# Altium footprint library Connector.PcbLib: 58 footprints (part 1 of 4)
Each footprint in its own frame and in the unit in brackets; x right, y up, seen from the top. Pads: shape width x height; smd on the part's side, far side on the other; paste and mask are expansions set on the pad; w line width, h text height; cw(c..) or ccw(c..) is an arc to the next point about the centre after c.
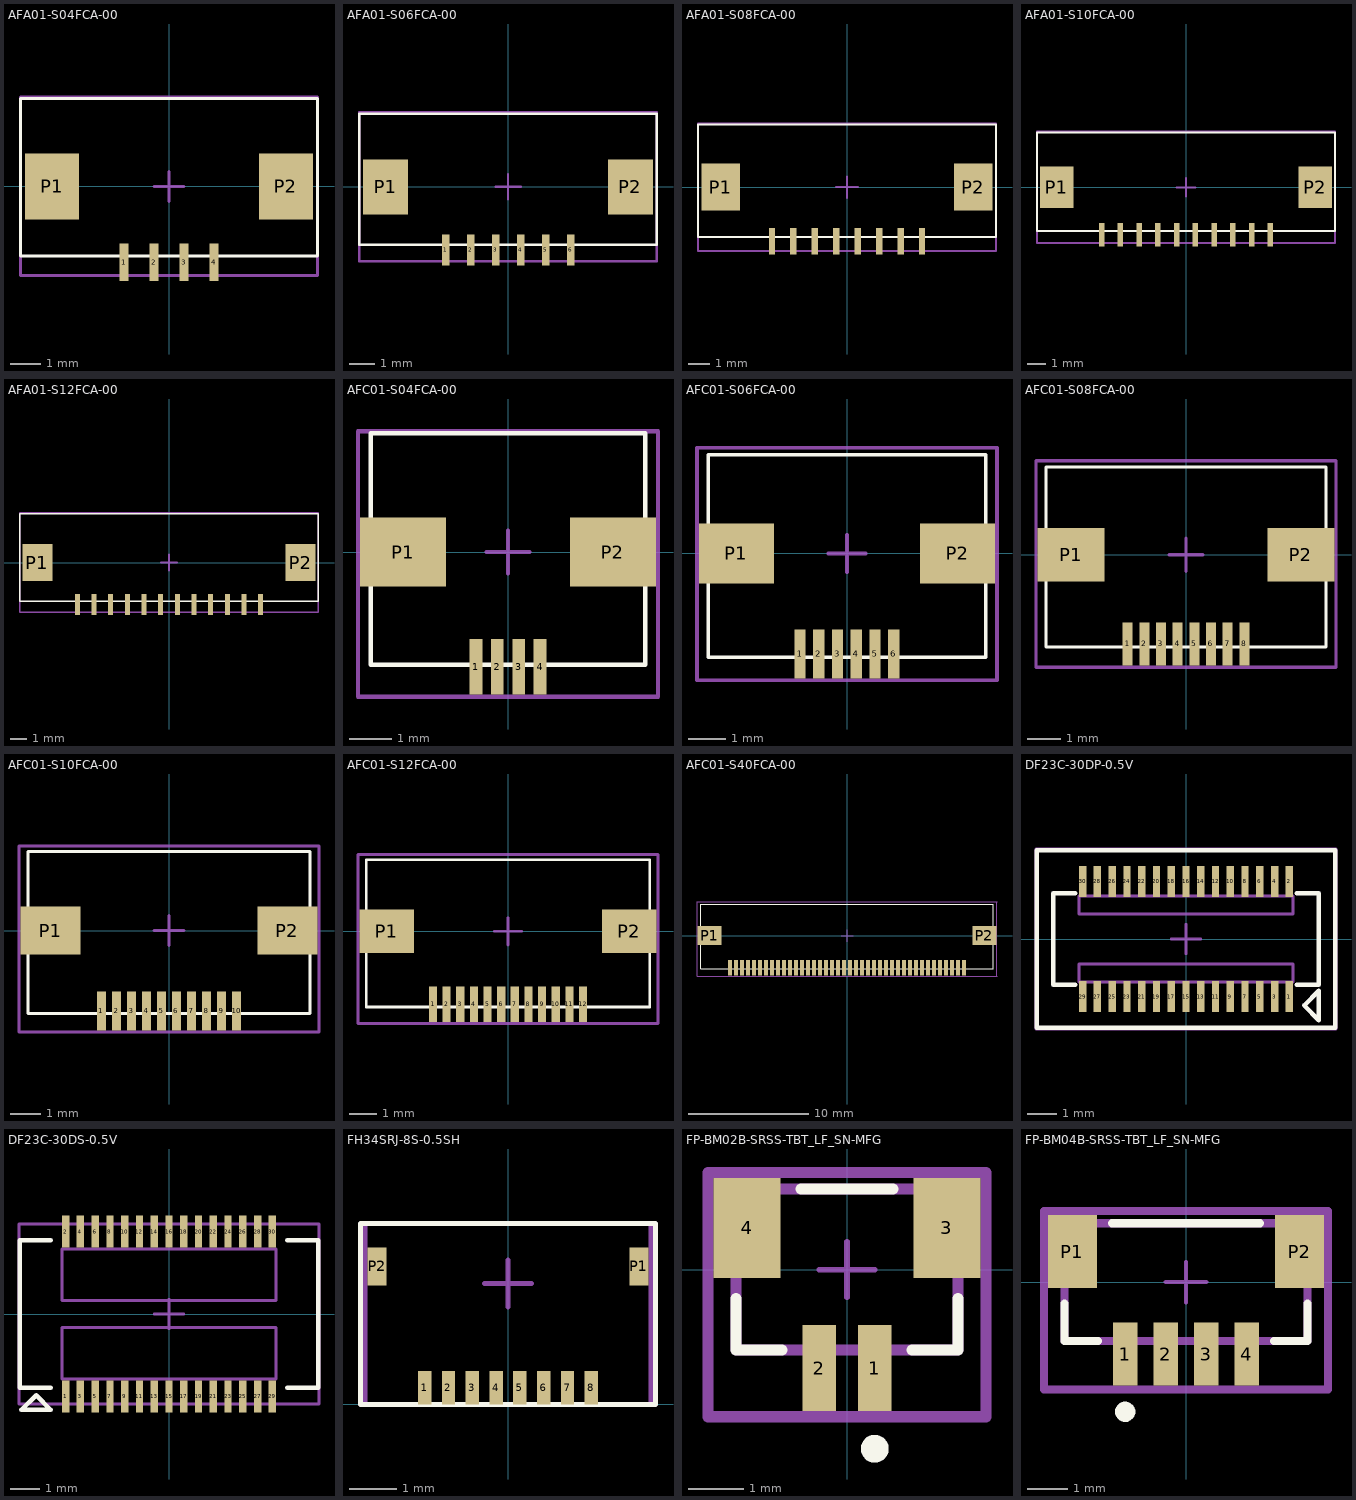
[diagram p0: the footprints below, top view; thin cyan lines are the x and y axes]

## AFA01-S04FCA-00 [mm] "SMD,P=1mm"
pads (6):
  rect 0.3x1.25 smd paste+0 mask+0.05: 1(-1.5,-2.525) 2(-0.5,-2.525) 3(0.5,-2.525) 4(1.5,-2.525)
  rect 1.8x2.2 smd paste+0 mask+0.05: P1(-3.9,0) P2(3.9,0)
Top Overlay:
  lines w0.1: -4.95,-2.325 4.95,-2.325 4.95,2.925 -4.95,2.925 -4.95,-2.325
Top Courtyard:
  lines w0.1: -4.95,-2.975 4.95,-2.975 4.95,2.975 -4.95,2.975 -4.95,-2.975
Top Component Center:
  lines w0.1: -0.5,0 0.5,0 ; 0,-0.5 0,0.5
3D body: height 2, standoff 0, extent -4.95,-2.1 4.95,3
3D body: height 2.1, standoff 1, extent -3,-0.002 3,3.2
3D body: height 0.2, standoff 0, extent -1.65,-2.75 -1.35,-1.85
3D body: height 0.2, standoff 0, extent -0.65,-2.75 -0.35,-1.85
3D body: height 0.2, standoff 0, extent 1.35,-2.75 1.65,-1.85
3D body: height 0.2, standoff 0, extent 0.35,-2.75 0.65,-1.85

## AFA01-S06FCA-00 [mm] "SMD,P=1mm"
pads (8):
  rect 0.3x1.25 smd paste+0 mask+0.05: 1(-2.5,-2.525) 2(-1.5,-2.525) 3(-0.5,-2.525) 4(0.5,-2.525) 5(1.5,-2.525) 6(2.5,-2.525)
  rect 1.8x2.2 smd paste+0 mask+0.05: P1(-4.9,0) P2(4.9,0)
Top Overlay:
  lines w0.1: -5.95,-2.325 5.95,-2.325 5.95,2.925 -5.95,2.925 -5.95,-2.325
Top Courtyard:
  lines w0.1: -5.95,-2.975 5.95,-2.975 5.95,2.975 -5.95,2.975 -5.95,-2.975
Top Component Center:
  lines w0.1: -0.5,0 0.5,0 ; 0,-0.5 0,0.5
3D body: height 0.2, standoff 0, extent 0.35,-2.75 0.65,-1.85
3D body: height 0.2, standoff 0, extent 2.35,-2.75 2.65,-1.85
3D body: height 0.2, standoff 0, extent 1.35,-2.75 1.65,-1.85
3D body: height 0.2, standoff 0, extent -0.65,-2.75 -0.35,-1.85
3D body: height 0.2, standoff 0, extent -1.65,-2.75 -1.35,-1.85
3D body: height 0.2, standoff 0, extent -2.65,-2.75 -2.35,-1.85
3D body: height 2.1, standoff 1, extent -4,-0.002 4,3.2
3D body: height 2, standoff 0, extent -5.95,-2.1 5.95,3

## AFA01-S08FCA-00 [mm] "SMD,P=1mm"
pads (10):
  rect 0.3x1.25 smd paste+0 mask+0.05: 1(-3.5,-2.525) 2(-2.5,-2.525) 3(-1.5,-2.525) 4(-0.5,-2.525) 5(0.5,-2.525) 6(1.5,-2.525) 7(2.5,-2.525) 8(3.5,-2.525)
  rect 1.8x2.2 smd paste+0 mask+0.05: P1(-5.9,0) P2(5.9,0)
Top Overlay:
  lines w0.1: -6.95,-2.325 -6.95,2.925 6.95,2.925 6.95,-2.325 -6.95,-2.325
Top Courtyard:
  lines w0.1: -6.95,-2.975 -6.95,2.975 6.95,2.975 6.95,-2.975 -6.95,-2.975
Top Component Center:
  lines w0.1: -0.5,0 0.5,0 ; 0,-0.5 0,0.5
3D body: height 0.2, standoff 0, extent -0.65,-2.75 -0.35,-1.85
3D body: height 0.2, standoff 0, extent 0.35,-2.75 0.65,-1.85
3D body: height 0.2, standoff 0, extent -1.65,-2.75 -1.35,-1.85
3D body: height 0.2, standoff 0, extent -2.65,-2.75 -2.35,-1.85
3D body: height 2.1, standoff 1, extent -5,-0.002 5,3.2
3D body: height 2, standoff 0, extent -6.95,-2.1 6.95,3
3D body: height 0.2, standoff 0, extent -3.65,-2.75 -3.35,-1.85
3D body: height 0.2, standoff 0, extent 1.35,-2.75 1.65,-1.85
3D body: height 0.2, standoff 0, extent 2.35,-2.75 2.65,-1.85
3D body: height 0.2, standoff 0, extent 3.35,-2.75 3.65,-1.85

## AFA01-S10FCA-00 [mm] "SMD,P=1mm"
pads (12):
  rect 0.3x1.25 smd paste+0 mask+0.05: 1(-4.5,-2.525) 2(-3.5,-2.525) 3(-2.5,-2.525) 4(-1.5,-2.525) 5(-0.5,-2.525) 6(0.5,-2.525) 7(1.5,-2.525) 8(2.5,-2.525) 9(3.5,-2.525) 10(4.5,-2.525)
  rect 1.8x2.2 smd paste+0 mask+0.05: P1(-6.9,0) P2(6.9,0)
Top Overlay:
  lines w0.1: -7.95,-2.325 -7.95,2.925 7.95,2.925 7.95,-2.325 -7.95,-2.325
Top Courtyard:
  lines w0.1: -7.95,-2.975 -7.95,2.975 7.95,2.975 7.95,-2.975 -7.95,-2.975
Top Component Center:
  lines w0.1: -0.5,0 0.5,0 ; 0,-0.5 0,0.5
3D body: height 0.2, standoff 0, extent -1.65,-2.75 -1.35,-1.85
3D body: height 0.2, standoff 0, extent -0.65,-2.75 -0.35,-1.85
3D body: height 0.2, standoff 0, extent -2.65,-2.75 -2.35,-1.85
3D body: height 0.2, standoff 0, extent -3.65,-2.75 -3.35,-1.85
3D body: height 2.1, standoff 1, extent -6,-0.002 6,3.2
3D body: height 2, standoff 0, extent -7.95,-2.1 7.95,3
3D body: height 0.2, standoff 0, extent -4.65,-2.75 -4.35,-1.85
3D body: height 0.2, standoff 0, extent 0.35,-2.75 0.65,-1.85
3D body: height 0.2, standoff 0, extent 1.35,-2.75 1.65,-1.85
3D body: height 0.2, standoff 0, extent 2.35,-2.75 2.65,-1.85
3D body: height 0.2, standoff 0, extent 3.35,-2.75 3.65,-1.85
3D body: height 0.2, standoff 0, extent 4.35,-2.75 4.65,-1.85

## AFA01-S12FCA-00 [mm] "SMD,P=1mm"
pads (14):
  rect 0.3x1.25 smd paste+0 mask+0.05: 1(-5.5,-2.525) 2(-4.5,-2.525) 3(-3.5,-2.525) 4(-2.5,-2.525) 5(-1.5,-2.525) 6(-0.5,-2.525) 7(0.5,-2.525) 8(1.5,-2.525) 9(2.5,-2.525) 10(3.5,-2.525) 11(4.5,-2.525) 12(5.5,-2.525)
  rect 1.8x2.2 smd paste+0 mask+0.05: P1(-7.9,0) P2(7.9,0)
Top Overlay:
  lines w0.1: -8.95,-2.325 8.95,-2.325 8.95,2.925 -8.95,2.925 -8.95,-2.325
Top Courtyard:
  lines w0.1: -8.95,-2.975 8.95,-2.975 8.95,2.975 -8.95,2.975 -8.95,-2.975
Top Component Center:
  lines w0.1: -0.5,0 0.5,0 ; 0,-0.5 0,0.5
3D body: height 0.2, standoff 0, extent 4.35,-2.75 4.65,-1.85
3D body: height 0.2, standoff 0, extent 5.35,-2.75 5.65,-1.85
3D body: height 0.2, standoff 0, extent -2.65,-2.75 -2.35,-1.85
3D body: height 0.2, standoff 0, extent -1.65,-2.75 -1.35,-1.85
3D body: height 0.2, standoff 0, extent -3.65,-2.75 -3.35,-1.85
3D body: height 0.2, standoff 0, extent -4.65,-2.75 -4.35,-1.85
3D body: height 2.1, standoff 1, extent -7,-0.002 7,3.2
3D body: height 2, standoff 0, extent -8.95,-2.1 8.95,3
3D body: height 0.2, standoff 0, extent -5.65,-2.75 -5.35,-1.85
3D body: height 0.2, standoff 0, extent -0.65,-2.75 -0.35,-1.85
3D body: height 0.2, standoff 0, extent 0.35,-2.75 0.65,-1.85
3D body: height 0.2, standoff 0, extent 1.35,-2.75 1.65,-1.85
3D body: height 0.2, standoff 0, extent 2.35,-2.75 2.65,-1.85
3D body: height 0.2, standoff 0, extent 3.35,-2.75 3.65,-1.85

## AFC01-S04FCA-00 [mm] "SMD,P=0.5mm"
pads (6):
  rect 0.3x1.3 smd: 1(-0.75,-2.68) 2(-0.25,-2.68) 3(0.25,-2.68) 4(0.75,-2.68)
  rect 2x1.6 smd: P1(-2.45,0) P2(2.45,0)
Top Overlay:
  lines w0.1: -3.2,-2.63 3.2,-2.63 3.2,2.77 -3.2,2.77 -3.2,-2.63
Top Courtyard:
  lines w0.1: -3.5,-3.38 3.5,-3.38 3.5,2.82 -3.5,2.82 -3.5,-3.38
Top Component Center:
  lines w0.1: -0.5,0 0.5,0 ; 0,-0.5 0,0.5
3D body: height 0.2, standoff 0, extent -0.9,-3.33 -0.6,-2.43
3D body: height 0.2, standoff 0, extent -0.4,-3.33 -0.1,-2.43
3D body: height 0.2, standoff 0, extent 0.6,-3.33 0.9,-2.43
3D body: height 0.2, standoff 0, extent 0.1,-3.33 0.4,-2.43
3D body: height 2.1, standoff 1, extent -1.4,-0.536 1.4,2.868
3D body: height 2, standoff 0, extent -3.2,-2.517 3.2,2.67

## AFC01-S06FCA-00 [mm] "SMD,P=0.5mm"
pads (8):
  rect 0.3x1.3 smd: 1(-1.25,-2.68) 2(-0.75,-2.68) 3(-0.25,-2.68) 4(0.25,-2.68) 5(0.75,-2.68) 6(1.25,-2.68)
  rect 2x1.6 smd: P1(-2.95,0) P2(2.95,0)
Top Overlay:
  lines w0.1: -3.7,-2.77 3.7,-2.77 3.7,2.63 -3.7,2.63 -3.7,-2.77
Top Courtyard:
  lines w0.1: -4,-3.38 4,-3.38 4,2.82 -4,2.82 -4,-3.38
Top Component Center:
  lines w0.1: -0.5,0 0.5,0 ; 0,-0.5 0,0.5
3D body: height 0.2, standoff 0, extent -1.4,-3.33 -1.1,-2.43
3D body: height 0.2, standoff 0, extent -0.9,-3.33 -0.6,-2.43
3D body: height 0.2, standoff 0, extent -0.4,-3.33 -0.1,-2.43
3D body: height 0.2, standoff 0, extent 0.6,-3.33 0.9,-2.43
3D body: height 0.2, standoff 0, extent 1.1,-3.33 1.4,-2.43
3D body: height 0.2, standoff 0, extent 0.1,-3.33 0.4,-2.43
3D body: height 2.1, standoff 1, extent -1.905,-0.536 1.905,2.868
3D body: height 2, standoff 0, extent -3.7,-2.517 3.7,2.67

## AFC01-S08FCA-00 [mm] "SMD,P=0.5mm"
pads (10):
  rect 0.3x1.3 smd: 1(-1.75,-2.68) 2(-1.25,-2.68) 3(-0.75,-2.68) 4(-0.25,-2.68) 5(0.25,-2.68) 6(0.75,-2.68) 7(1.25,-2.68) 8(1.75,-2.68)
  rect 2x1.6 smd: P1(-3.45,0) P2(3.45,0)
Top Overlay:
  lines w0.1: -4.2,-2.77 4.2,-2.77 4.2,2.63 -4.2,2.63 -4.2,-2.77
Top Courtyard:
  lines w0.1: -4.5,-3.38 4.5,-3.38 4.5,2.82 -4.5,2.82 -4.5,-3.38
Top Component Center:
  lines w0.1: -0.5,0 0.5,0 ; 0,-0.5 0,0.5
3D body: height 0.2, standoff 0, extent 1.6,-3.33 1.9,-2.43
3D body: height 0.2, standoff 0, extent -1.9,-3.33 -1.6,-2.43
3D body: height 2, standoff 0, extent -4.2,-2.517 4.2,2.67
3D body: height 2.1, standoff 1, extent -2.4,-0.536 2.4,2.868
3D body: height 0.2, standoff 0, extent 0.1,-3.33 0.4,-2.43
3D body: height 0.2, standoff 0, extent 1.1,-3.33 1.4,-2.43
3D body: height 0.2, standoff 0, extent 0.6,-3.33 0.9,-2.43
3D body: height 0.2, standoff 0, extent -0.4,-3.33 -0.1,-2.43
3D body: height 0.2, standoff 0, extent -0.9,-3.33 -0.6,-2.43
3D body: height 0.2, standoff 0, extent -1.4,-3.33 -1.1,-2.43

## AFC01-S10FCA-00 [mm] "SMD,P=0.5mm"
pads (12):
  rect 0.3x1.3 smd: 1(-2.25,-2.68) 2(-1.75,-2.68) 3(-1.25,-2.68) 4(-0.75,-2.68) 5(-0.25,-2.68) 6(0.25,-2.68) 7(0.75,-2.68) 8(1.25,-2.68) 9(1.75,-2.68) 10(2.25,-2.68)
  rect 2x1.6 smd: P1(-3.95,0) P2(3.95,0)
Top Overlay:
  lines w0.1: -4.7,-2.77 -4.7,2.63 4.7,2.63 4.7,-2.77 -4.7,-2.77
Top Courtyard:
  lines w0.1: -5,-3.38 -5,2.82 5,2.82 5,-3.38 -5,-3.38
Top Component Center:
  lines w0.1: -0.5,0 0.5,0 ; 0,-0.5 0,0.5
3D body: height 0.2, standoff 0, extent -1.9,-3.33 -1.6,-2.43
3D body: height 0.2, standoff 0, extent -1.4,-3.33 -1.1,-2.43
3D body: height 0.2, standoff 0, extent -0.9,-3.33 -0.6,-2.43
3D body: height 0.2, standoff 0, extent 0.1,-3.33 0.4,-2.43
3D body: height 0.2, standoff 0, extent 0.6,-3.33 0.9,-2.43
3D body: height 0.2, standoff 0, extent -0.4,-3.33 -0.1,-2.43
3D body: height 2.1, standoff 1, extent -2.9,-0.536 2.9,2.868
3D body: height 2, standoff 0, extent -4.7,-2.517 4.7,2.67
3D body: height 0.2, standoff 0, extent -2.4,-3.33 -2.1,-2.43
3D body: height 0.2, standoff 0, extent 1.1,-3.33 1.4,-2.43
3D body: height 0.2, standoff 0, extent 1.6,-3.33 1.9,-2.43
3D body: height 0.2, standoff 0, extent 2.1,-3.33 2.4,-2.43

## AFC01-S12FCA-00 [mm] "SMD,P=0.5mm"
pads (14):
  rect 0.3x1.3 smd: 1(-2.75,-2.68) 2(-2.25,-2.68) 3(-1.75,-2.68) 4(-1.25,-2.68) 5(-0.75,-2.68) 6(-0.25,-2.68) 7(0.25,-2.68) 8(0.75,-2.68) 9(1.25,-2.68) 10(1.75,-2.68) 11(2.25,-2.68) 12(2.75,-2.68)
  rect 2x1.6 smd: P1(-4.45,0) P2(4.45,0)
Top Overlay:
  lines w0.1: -5.2,-2.77 5.2,-2.77 5.2,2.63 -5.2,2.63 -5.2,-2.77
Top Courtyard:
  lines w0.1: -5.5,-3.38 -5.5,2.82 5.5,2.82 5.5,-3.38 -5.5,-3.38
Top Component Center:
  lines w0.1: -0.5,0 0.5,0 ; 0,-0.5 0,0.5
3D body: height 0.2, standoff 0, extent 1.6,-3.33 1.9,-2.43
3D body: height 0.2, standoff 0, extent 1.1,-3.33 1.4,-2.43
3D body: height 0.2, standoff 0, extent 0.6,-3.33 0.9,-2.43
3D body: height 0.2, standoff 0, extent -2.9,-3.33 -2.6,-2.43
3D body: height 2, standoff 0, extent -5.2,-2.517 5.2,2.67
3D body: height 2.1, standoff 1, extent -3.4,-0.536 3.4,2.868
3D body: height 0.2, standoff 0, extent -0.9,-3.33 -0.6,-2.43
3D body: height 0.2, standoff 0, extent 0.1,-3.33 0.4,-2.43
3D body: height 0.2, standoff 0, extent -0.4,-3.33 -0.1,-2.43
3D body: height 0.2, standoff 0, extent -1.4,-3.33 -1.1,-2.43
3D body: height 0.2, standoff 0, extent -1.9,-3.33 -1.6,-2.43
3D body: height 0.2, standoff 0, extent -2.4,-3.33 -2.1,-2.43
3D body: height 0.2, standoff 0, extent 2.6,-3.33 2.9,-2.43
3D body: height 0.2, standoff 0, extent 2.1,-3.33 2.4,-2.43

## AFC01-S40FCA-00 [mm] "SMD,P=0.5mm"
pads (42):
  rect 0.3x1.3 smd: 1(-9.75,-2.68) 2(-9.25,-2.68) 3(-8.75,-2.68) 4(-8.25,-2.68) 5(-7.75,-2.68) 6(-7.25,-2.68) 7(-6.75,-2.68) 8(-6.25,-2.68) 9(-5.75,-2.68) 10(-5.25,-2.68) 11(-4.75,-2.68) 12(-4.25,-2.68) 13(-3.75,-2.68) 14(-3.25,-2.68) 15(-2.75,-2.68) 16(-2.25,-2.68) 17(-1.75,-2.68) 18(-1.25,-2.68) 19(-0.75,-2.68) 20(-0.25,-2.68) 21(0.25,-2.68) 22(0.75,-2.68) 23(1.25,-2.68) 24(1.75,-2.68) 25(2.25,-2.68) 26(2.75,-2.68) 27(3.25,-2.68) 28(3.75,-2.68) 29(4.25,-2.68) 30(4.75,-2.68) 31(5.25,-2.68) 32(5.75,-2.68) 33(6.25,-2.68) 34(6.75,-2.68) 35(7.25,-2.68) 36(7.75,-2.68) 37(8.25,-2.68) 38(8.75,-2.68) 39(9.25,-2.68) 40(9.75,-2.68)
  rect 2x1.6 smd: P1(-11.45,0) P2(11.45,0)
Top Overlay:
  lines w0.1: -12.2,-2.77 -12.2,2.63 12.2,2.63 12.2,-2.77 -12.2,-2.77
Top Courtyard:
  lines w0.1: -12.5,-3.38 12.5,-3.38 12.5,2.82 -12.5,2.82 -12.5,-3.38
Top Component Center:
  lines w0.1: -0.5,0 0.5,0 ; 0,-0.5 0,0.5
3D body: height 0.2, standoff 0, extent 9.1,-3.33 9.4,-2.43
3D body: height 0.2, standoff 0, extent 9.6,-3.33 9.9,-2.43
3D body: height 0.2, standoff 0, extent 8.1,-3.33 8.4,-2.43
3D body: height 0.2, standoff 0, extent 8.6,-3.33 8.9,-2.43
3D body: height 0.2, standoff 0, extent 7.1,-3.33 7.4,-2.43
3D body: height 0.2, standoff 0, extent 7.6,-3.33 7.9,-2.43
3D body: height 0.2, standoff 0, extent 2.6,-3.33 2.9,-2.43
3D body: height 0.2, standoff 0, extent 3.1,-3.33 3.4,-2.43
3D body: height 0.2, standoff 0, extent 3.6,-3.33 3.9,-2.43
3D body: height 0.2, standoff 0, extent 4.6,-3.33 4.9,-2.43
3D body: height 0.2, standoff 0, extent 5.1,-3.33 5.4,-2.43
3D body: height 0.2, standoff 0, extent 4.1,-3.33 4.4,-2.43
3D body: height 0.2, standoff 0, extent 2.1,-3.33 2.4,-2.43
3D body: height 0.2, standoff 0, extent 5.6,-3.33 5.9,-2.43
3D body: height 0.2, standoff 0, extent 6.1,-3.33 6.4,-2.43
3D body: height 0.2, standoff 0, extent 6.6,-3.33 6.9,-2.43
3D body: height 0.2, standoff 0, extent 1.1,-3.33 1.4,-2.43
3D body: height 0.2, standoff 0, extent 1.6,-3.33 1.9,-2.43
3D body: height 0.2, standoff 0, extent -3.4,-3.33 -3.1,-2.43
3D body: height 0.2, standoff 0, extent -2.9,-3.33 -2.6,-2.43
3D body: height 0.2, standoff 0, extent -2.4,-3.33 -2.1,-2.43
3D body: height 0.2, standoff 0, extent -1.4,-3.33 -1.1,-2.43
3D body: height 0.2, standoff 0, extent -0.9,-3.33 -0.6,-2.43
3D body: height 0.2, standoff 0, extent -1.9,-3.33 -1.6,-2.43
3D body: height 0.2, standoff 0, extent -3.9,-3.33 -3.6,-2.43
3D body: height 0.2, standoff 0, extent -0.4,-3.33 -0.1,-2.43
3D body: height 0.2, standoff 0, extent 0.1,-3.33 0.4,-2.43
3D body: height 0.2, standoff 0, extent 0.6,-3.33 0.9,-2.43
3D body: height 0.2, standoff 0, extent -4.9,-3.33 -4.6,-2.43
3D body: height 0.2, standoff 0, extent -4.4,-3.33 -4.1,-2.43
3D body: height 0.2, standoff 0, extent -9.4,-3.33 -9.1,-2.43
3D body: height 0.2, standoff 0, extent -8.9,-3.33 -8.6,-2.43
3D body: height 0.2, standoff 0, extent -8.4,-3.33 -8.1,-2.43
3D body: height 0.2, standoff 0, extent -7.4,-3.33 -7.1,-2.43
3D body: height 0.2, standoff 0, extent -6.9,-3.33 -6.6,-2.43
3D body: height 0.2, standoff 0, extent -7.9,-3.33 -7.6,-2.43
3D body: height 2.1, standoff 1, extent -10.4,-0.536 10.4,2.868
3D body: height 2, standoff 0, extent -12.2,-2.517 12.2,2.67
3D body: height 0.2, standoff 0, extent -9.9,-3.33 -9.6,-2.43
3D body: height 0.2, standoff 0, extent -6.4,-3.33 -6.1,-2.43
3D body: height 0.2, standoff 0, extent -5.9,-3.33 -5.6,-2.43
3D body: height 0.2, standoff 0, extent -5.4,-3.33 -5.1,-2.43

## DF23C-30DP-0.5V [mm]
pads (30):
  rect 0.25x1.05 smd: 1(3.5,-1.95) 2(3.5,1.95) 3(3,-1.95) 4(3,1.95) 5(2.5,-1.95) 6(2.5,1.95) 7(2,-1.95) 8(2,1.95) 9(1.5,-1.95) 10(1.5,1.95) 11(1,-1.95) 12(1,1.95) 13(0.5,-1.95) 14(0.5,1.95) 15(0,-1.95) 16(0,1.95) 17(-0.5,-1.95) 18(-0.5,1.95) 19(-1,-1.95) 20(-1,1.95) 21(-1.5,-1.95) 22(-1.5,1.95) 23(-2,-1.95) 24(-2,1.95) 25(-2.5,-1.95) 26(-2.5,1.95) 27(-3,-1.95) 28(-3,1.95) 29(-3.5,-1.95) 30(-3.5,1.95)
Top Overlay:
  lines w0.152: -3.75,-1.55 -4.5,-1.55 -4.5,1.55 -4,1.55 -3.75,1.55 ; 3.75,-1.55 4.5,-1.55 4.5,1.55 3.75,1.55 ; -5.05,-3 -5.05,3 5.05,3 5.05,-3 -5.05,-3 ; 4,-2.25 4.5,-1.75 4.5,-2.5 4.5,-2.75 4,-2.25
Top Courtyard:
  lines w0.102: -5.08,-3.048 5.08,-3.048 5.08,3.048 -5.08,3.048 -5.08,-3.048
Top Assembly:
  lines w0.102: -3.625,-1.45 -3.625,-0.85 3.625,-0.85 3.625,-1.45 -3.625,-1.45 ; -3.625,0.85 3.625,0.85 3.625,1.45 -3.625,1.45 -3.625,0.85
Top Component Center:
  lines w0.1: -0.5,0 0.5,0 ; 0,-0.5 0,0.5
3D body: height 1.45, standoff 0, extent -4.5,-1.5 4.5,1.5

## DF23C-30DS-0.5V [mm]
pads (30):
  rect 0.25x1.1 smd: 1(-3.5,-2.794) 2(-3.5,2.794) 3(-3,-2.794) 4(-3,2.794) 5(-2.5,-2.794) 6(-2.5,2.794) 7(-2,-2.794) 8(-2,2.794) 9(-1.5,-2.794) 10(-1.5,2.794) 11(-1,-2.794) 12(-1,2.794) 13(-0.5,-2.794) 14(-0.5,2.794) 15(0,-2.794) 16(0,2.794) 17(0.5,-2.794) 18(0.5,2.794) 19(1,-2.794) 20(1,2.794) 21(1.5,-2.794) 22(1.5,2.794) 23(2,-2.794) 24(2,2.794) 25(2.5,-2.794) 26(2.5,2.794) 27(3,-2.794) 28(3,2.794) 29(3.5,-2.794) 30(3.5,2.794)
Top Overlay:
  lines w0.152: -4,-2.5 -5.05,-2.5 -5.05,2.5 -4,2.5 ; 4,-2.5 5.05,-2.5 5.05,2.5 4,2.5 ; -5,-3.25 -4,-3.25 -4.5,-2.75 -5,-3.25
Top Courtyard:
  lines w0.102: -5.08,-3.048 5.08,-3.048 5.08,3.048 -5.08,3.048 -5.08,-3.048
Top Assembly:
  lines w0.102: -3.625,-2.2 3.625,-2.2 3.625,-0.45 -3.625,-0.45 -3.625,-2.2 ; -3.625,0.45 3.625,0.45 3.625,2.2 -3.625,2.2 -3.625,0.45
Top Component Center:
  lines w0.1: -0.5,0 0.5,0 ; 0,-0.5 0,0.5
3D body: height 1.45, standoff 0, extent -5,-2.5 5,2.5

## FH34SRJ-8S-0.5SH [mm] "SMD,P=0.5mm"
pads (10):
  rect 0.28x0.7 smd: 1(-1.75,0.35) 2(-1.25,0.35) 3(-0.75,0.35) 4(-0.25,0.35) 5(0.25,0.35) 6(0.75,0.35) 7(1.25,0.35) 8(1.75,0.35)
  rect 0.4x0.8 smd: P1(2.75,2.9) P2(-2.75,2.9)
Top Overlay:
  lines w0.1: -3.1,0 -3.1,3.8 ; 3.1,0 3.1,3.8
  lines w0.102: -3.1,0 3.1,0 ; -3.1,3.8 3.1,3.8
Top Courtyard:
  lines w0.1: -3,0 -3,3.8 ; 3,0 3,3.8
  lines w0.102: -3,0 3,0 ; -3,3.8 3,3.8
Top Component Center:
  lines w0.1: -0.5,2.54 0.5,2.54 ; 0,2.04 0,3.04
3D body: height 2, standoff 0, extent -3,0.813 3,3.8
3D body: height 0.2, standoff 0, extent 0.1,0 0.4,0.9
3D body: height 0.2, standoff 0, extent -0.9,0 -0.6,0.9
3D body: height 0.2, standoff 0, extent -1.4,0 -1.1,0.9
3D body: height 0.2, standoff 0, extent -1.9,0 -1.6,0.9
3D body: height 2.1, standoff 1, extent -2.9,-0.002 2.9,1.8
3D body: height 0.2, standoff 0, extent 0.6,0 0.9,0.9
3D body: height 0.2, standoff 0, extent 1.6,0 1.9,0.9
3D body: height 0.2, standoff 0, extent -0.4,0 -0.1,0.9
3D body: height 0.2, standoff 0, extent 1.1,0 1.4,0.9

## FP-BM02B-SRSS-TBT_LF_SN-MFG [mm]
pads (4):
  rect 0.6x1.55 smd paste+0 mask+0: 1(0.5,-1.775) 2(-0.5,-1.775)
  rect 1.2x1.8 smd paste+0 mask+0: 3(1.8,0.75) 4(-1.8,0.75)
Top Overlay:
  circle w0.25: c0.5,-3.225 r0.125
  lines w0.2: -2,-0.525 -2,-1.45 -1.175,-1.45 ; -0.825,1.45 0.825,1.45 ; 1.175,-1.45 2,-1.45 2,-0.525
Top 3D Body:
  lines w0.2: -2,-1.45 2,-1.45 2,1.45 -2,1.45 -2,-1.45
Top Courtyard:
  lines w0.2: -2.5,-2.65 2.5,-2.65 2.5,1.75 -2.5,1.75 -2.5,-2.65
Top Assembly:
  lines w0.2: -2.5,-2.65 2.5,-2.65 2.5,1.75 -2.5,1.75 -2.5,-2.65
Top Component Center:
  lines w0.1: -0.5,0 0.5,0 ; 0,-0.5 0,0.5
3D body "Conn_JST_BM02B-SRSS-TBT_LF_SN_eec.STEP": height 0.25, standoff 0, extent -2.5,-2.65 2.5,1.75

## FP-BM04B-SRSS-TBT_LF_SN-MFG [mm]
pads (6):
  rect 0.6x1.55 smd paste+0 mask+0: 1(-1.5,-1.775) 2(-0.5,-1.775) 3(0.5,-1.775) 4(1.5,-1.775)
  rect 1.2x1.8 smd paste+0 mask+0: P1(-2.8,0.75) P2(2.8,0.75)
Top Overlay:
  circle w0.25: c-1.5,-3.2 r0.125
  lines w0.2: -3,-0.525 -3,-1.45 -2.175,-1.45 ; -1.825,1.45 1.825,1.45 ; 2.175,-1.45 3,-1.45 3,-0.525
Top 3D Body:
  lines w0.2: -3,-1.45 3,-1.45 3,1.45 -3,1.45 -3,-1.45
Top Courtyard:
  lines w0.2: -3.5,-2.65 3.5,-2.65 3.5,1.75 -3.5,1.75 -3.5,-2.65
Top Assembly:
  lines w0.2: -3.5,-2.65 3.5,-2.65 3.5,1.75 -3.5,1.75 -3.5,-2.65
Top Component Center:
  lines w0.1: -0.5,0 0.5,0 ; 0,-0.5 0,0.5
3D body "Conn_JST_BM04B-SRSS-TBT_LF_SN_eec.STEP": height 0.25, standoff 0, extent -3.5,-2.65 3.5,1.75